# EAGLE library part AT89C55 (library 0atmel89cxxxx)
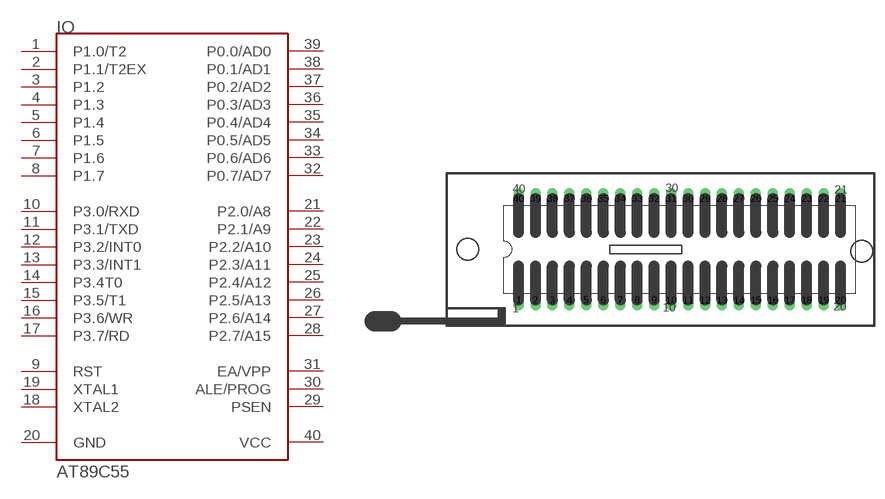
[diagram p4: symbol with the pads of PDIP40; footprint PDIP40]

Designator prefix IO

## AT89C55  [PDIP40]
1  P1.0/T2
2  P1.1/T2EX
3  P1.2
4  P1.3
5  P1.4
6  P1.5
7  P1.6
8  P1.7
9  RST
10  P3.0/RXD
11  P3.1/TXD
12  P3.2/INT0
13  P3.3/INT1
14  P3.4T0
15  P3.5/T1
16  P3.6/WR
17  P3.7/RD
18  XTAL2
19  XTAL1
20  GND  pwr
21  P2.0/A8
22  P2.1/A9
23  P2.2/A10
24  P2.3/A11
25  P2.4/A12
26  P2.5/A13
27  P2.6/A14
28  P2.7/A15
29  PSEN
30  ALE/PROG
31  EA/VPP
32  P0.7/AD7
33  P0.6/AD6
34  P0.5/AD5
35  P0.4/AD4
36  P0.3/AD3
37  P0.2/AD2
38  P0.1/AD1
39  P0.0/AD0
40  VCC  pwr

## Footprint PDIP40 (pad centres in mm)
drill 1 pad 1.6 long: 1 -15.24,-7.62; 2 -12.7,-7.62; 3 -10.16,-7.62; 4 -7.62,-7.62; 5 -5.08,-7.62; 6 -2.54,-7.62; 7 0,-7.62; 8 2.54,-7.62; 9 5.08,-7.62; 10 7.62,-7.62; 11 10.16,-7.62; 12 12.7,-7.62; 13 15.24,-7.62; 14 17.78,-7.62; 15 20.32,-7.62; 16 22.86,-7.62; 17 25.4,-7.62; 18 27.94,-7.62; 19 30.48,-7.62; 20 33.02,-7.62; 21 33.02,7.62; 22 30.48,7.62; 23 27.94,7.62; 24 25.4,7.62; 25 22.86,7.62; 26 20.32,7.62; 27 17.78,7.62; 28 15.24,7.62; 29 12.7,7.62; 30 10.16,7.62; 31 7.62,7.62; 32 5.08,7.62; 33 2.54,7.62; 34 0,7.62; 35 -2.54,7.62; 36 -5.08,7.62; 37 -7.62,7.62; 38 -10.16,7.62; 39 -12.7,7.62; 40 -15.24,7.62